# EAGLE library part AEDR8300P (library monome-inc)
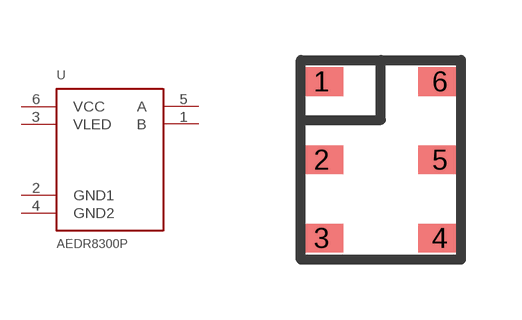
[diagram p4: symbol with the pads of AEDR8300; footprint AEDR8300]

Designator prefix -

## AEDR8300P  [AEDR8300]
1  B
2  GND1
3  VLED
4  GND2
5  A
6  VCC

## Footprint AEDR8300 (pad centres in mm)
smd 1.08 x 0.72: 1 -1.48,1.96; 2 -1.48,0; 3 -1.48,-1.96; 4 1.48,-1.96; 5 1.48,0; 6 1.48,1.96